# Altium footprint library PcbLib1.PcbLib: 3 footprints
Each footprint in its own frame and in the unit in brackets; x right, y up, seen from the top. Pads: shape width x height; smd on the part's side, far side on the other; paste and mask are expansions set on the pad; w line width, h text height; cw(c..) or ccw(c..) is an arc to the next point about the centre after c.
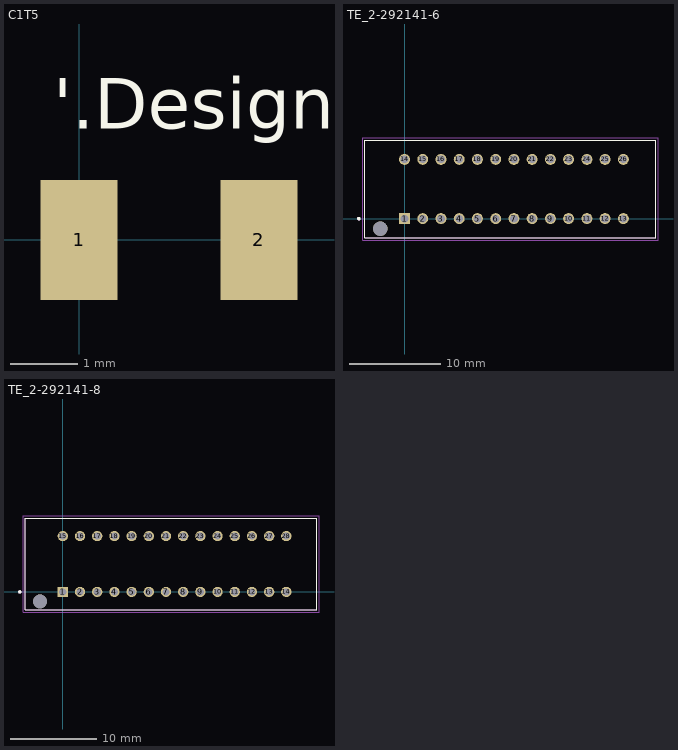
[diagram p0: the footprints below, top view; thin cyan lines are the x and y axes]

## C1T5 [mm]
pads (2):
  rect 1.14x1.78 smd mask+0.025: 1(0,0) 2(2.66,0)
Top Overlay:
  text "'.Designator'" at -0.381,1.647 h0.75
3D body "C1T5_CAD_Model.SLDPRT": height 0.61, standoff -0.02, extent -0.3,-0.79 2.9,0.79

## TE_2-292141-6 [mm]
pads (27):
  rect 1.2x1.2 hole 0.85: 1(0,0)
  round 1.2 hole 0.85: 2(2,0) 3(4,0) 4(6,0) 5(8,0) 6(10,0) 7(12,0) 8(14,0) 9(16,0) 10(18,0) 11(20,0) 12(22,0) 13(24,0) 14(0,6.5) 15(2,6.5) 16(4,6.5) 17(6,6.5) 18(8,6.5) 19(10,6.5) 20(12,6.5) 21(14,6.5) 22(16,6.5) 23(18,6.5) 24(20,6.5) 25(22,6.5) 26(24,6.5)
  round 1.6 hole 1.6 unplated: ""(-2.65,-1.1)
Top Overlay:
  circle w0.2: c-5,0 r0.1
  lines w0.127: -4.35,-2.1 -4.35,8.6 27.55,8.6 27.55,-2.1 -4.35,-2.1
Mechanical 13:
  circle w0.2: c-5,0 r0.1
  lines w0.127: -4.35,-2.1 -4.35,8.6 ; -4.35,-2.1 27.55,-2.1 ; -4.35,-2.1 -4.35,8.6 ; -4.35,8.6 27.55,8.6 ; -4.35,8.6 27.55,8.6 ; 27.55,-2.1 27.55,8.6 ; 27.55,-2.1 27.55,8.6
Mechanical 15:
  lines w0.05: -4.6,-2.35 -4.6,8.85 27.8,8.85 27.8,-2.35 -4.6,-2.35

## TE_2-292141-8 [mm]
pads (29):
  rect 1.2x1.2 hole 0.85: 1(0,0)
  round 1.2 hole 0.85: 2(2,0) 3(4,0) 4(6,0) 5(8,0) 6(10,0) 7(12,0) 8(14,0) 9(16,0) 10(18,0) 11(20,0) 12(22,0) 13(24,0) 14(26,0) 15(0,6.5) 16(2,6.5) 17(4,6.5) 18(6,6.5) 19(8,6.5) 20(10,6.5) 21(12,6.5) 22(14,6.5) 23(16,6.5) 24(18,6.5) 25(20,6.5) 26(22,6.5) 27(24,6.5) 28(26,6.5)
  round 1.6 hole 1.6 unplated: ""(-2.65,-1.1)
Top Overlay:
  circle w0.2: c-5,0 r0.1
  lines w0.127: -4.35,-2.1 -4.35,8.6 29.55,8.6 29.55,-2.1 -4.35,-2.1
Mechanical 13:
  circle w0.2: c-5,0 r0.1
  lines w0.127: -4.35,-2.1 -4.35,8.6 ; -4.35,-2.1 29.55,-2.1 ; -4.35,-2.1 -4.35,8.6 ; -4.35,8.6 29.55,8.6 ; -4.35,8.6 29.55,8.6 ; 29.55,-2.1 29.55,8.6 ; 29.55,-2.1 29.55,8.6
Mechanical 15:
  lines w0.05: -4.6,-2.35 -4.6,8.85 29.8,8.85 29.8,-2.35 -4.6,-2.35